# Altium footprint library SignalCommunications.PCBLIB: 466 footprints (part 2 of 30)
Each footprint in its own frame and in the unit in brackets; x right, y up, seen from the top. Pads: shape width x height; smd on the part's side, far side on the other; paste and mask are expansions set on the pad; w line width, h text height; cw(c..) or ccw(c..) is an arc to the next point about the centre after c.
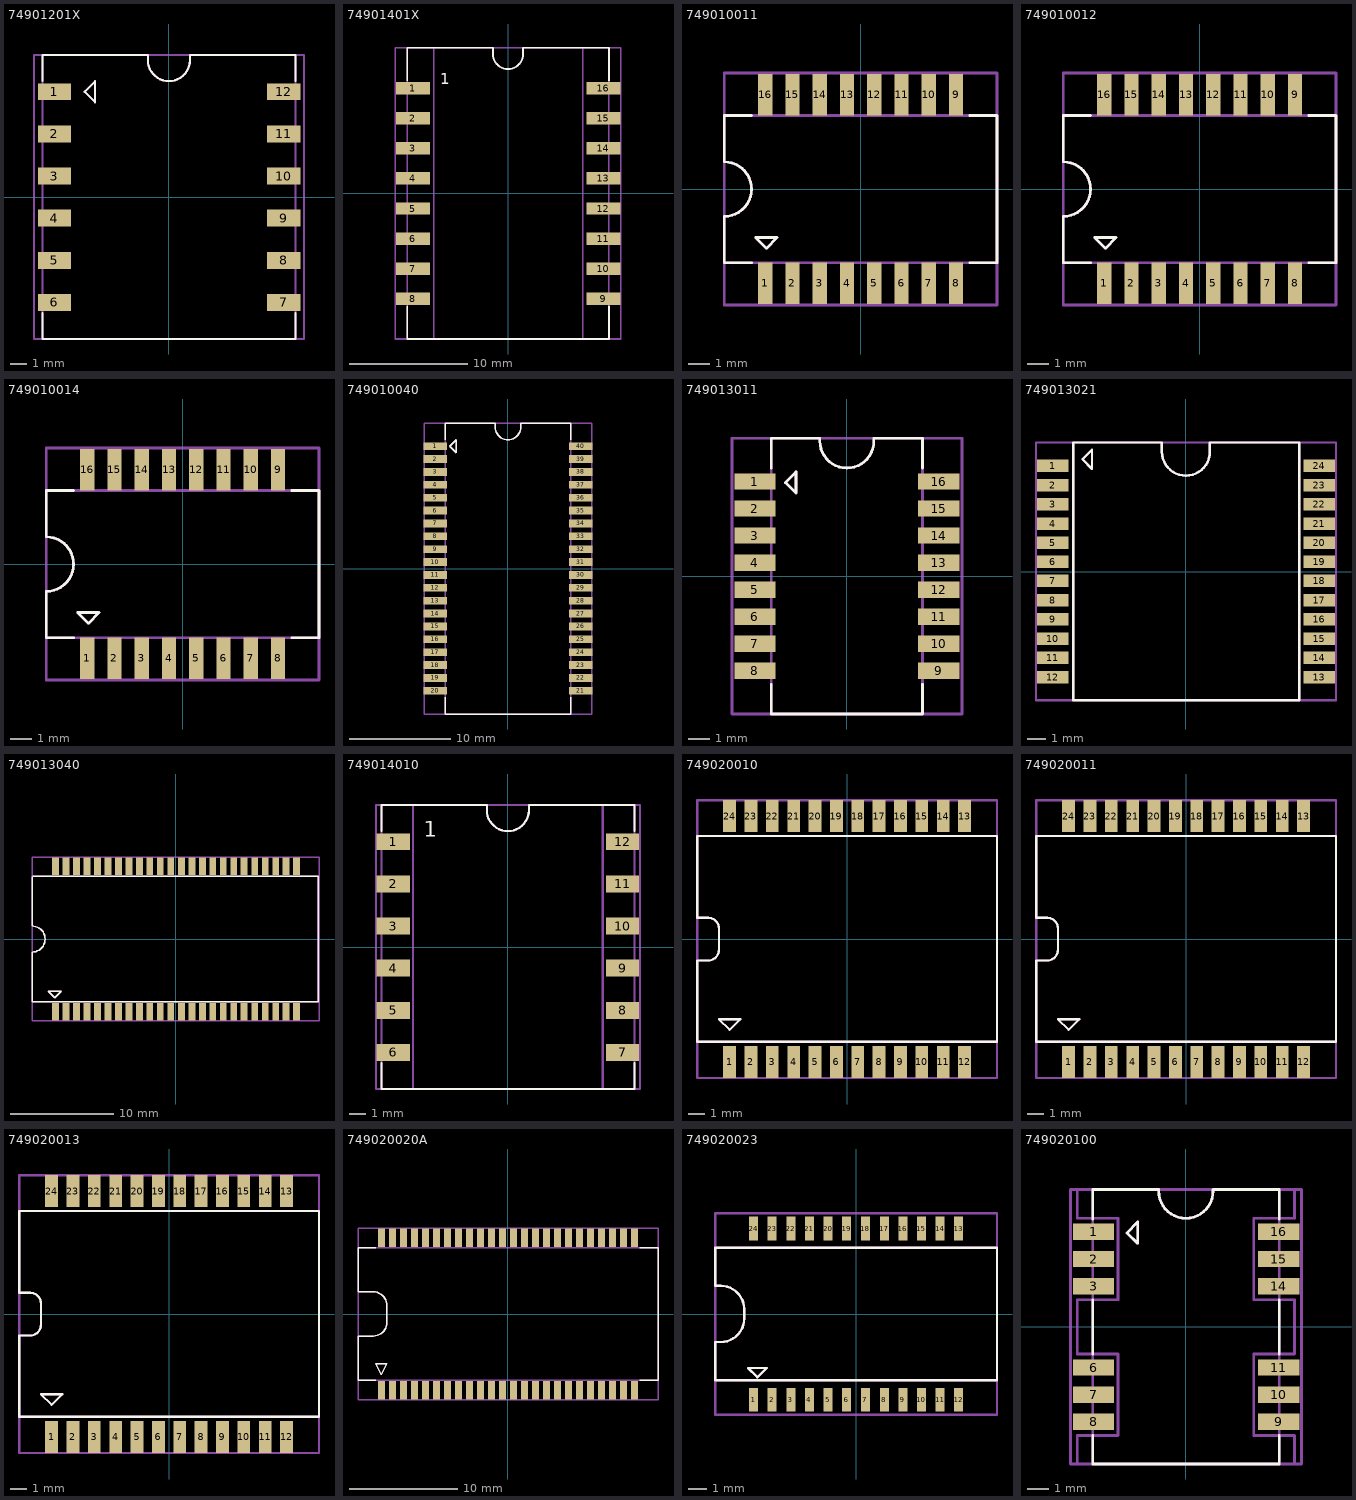
[diagram p1: the footprints below, top view; thin cyan lines are the x and y axes]

## 74901201X [mil]
pads (12):
  rect 79x40 smd: 1(-271.65,250) 2(-271.65,150) 3(-271.65,50) 4(-271.65,-50) 5(-271.65,-150) 6(-271.65,-250) 7(272,-250) 8(272,-150) 9(272,-50) 10(272,50) 11(272,150) 12(272,250)
Top Overlay:
  lines w5: -300,-275 -300,-336.61 300,-336.61 300,-275 ; -300,275 -300,337 -50,337 -50,325 ccw(c0,325) 0,275 ccw(c0,325) 50,325 50,337 300,337 300,275 ; -200,250 -175,275 -175,225 -200,250
Mechanical 10:
  lines w5: -300,-336.61 300,-336.61 300,337 -300,337 -300,-336.61
Mechanical 16:
  lines w5: -300,-336.61 300,-336.61 300,337 50,337 50,325 cw(c0,325) 0,275 cw(c0,325) -50,325 -50,337 -300,337 -300,-336.61 ; -200,250 -175,275 -175,225 -200,250
Mechanical 27:
  lines w5: -319.69,-336.61 -319.69,337 320,337 320,-336.61 -319.69,-336.61

## 74901401X [mil]
pads (16):
  rect 113x41 smd: 1(-316.14,350) 2(-316.14,250) 3(-316.14,150) 4(-316.14,50) 5(-316.14,-50) 6(-316.14,-150) 7(-316.14,-250) 8(-316.14,-350) 9(317,-350) 10(317,-250) 11(317,-150) 12(317,-50) 13(317,50) 14(317,150) 15(317,250) 16(317,350)
Top Overlay:
  lines w6: -334.65,-375 -334.65,-483.27 335,-483.27 335,-375 ; -334.65,375 -334.65,484 -50,484 -50,463 ccw(c0,463) 0,413 ccw(c0,463) 50,463 50,484 335,484 335,375
  text "1" at -225,350 h62
Mechanical 10:
  lines w5: -247.15,-483.27 -247.15,484 248,484 248,-483.27
  lines w6: -247.15,-483.27 248,-483.27
Mechanical 16:
  lines w5: -334.65,-483.27 335,-483.27 335,484 50,484 50,463 cw(c0,463) 0,413 cw(c0,463) -50,463 -50,484 -334.65,484 -334.65,-483.27
  text "1" at -225,350 h62
Mechanical 27:
  lines w5: -375,-483.27 -375,484 375,484 375,-483.27 -375,-483.27

## 749010011 [mil]
pads (16):
  rect 26x76 smd: 1(-175,-172.64) 2(-125,-172.64) 3(-75,-172.64) 4(-25,-172.64) 5(25,-172.64) 6(75,-172.64) 7(125,-172.64) 8(175,-172.64) 9(175,173) 10(125,173) 11(75,173) 12(25,173) 13(-25,173) 14(-75,173) 15(-125,173) 16(-175,173)
Top Overlay:
  lines w5: -200,-134.84 -250,-134.84 -250,-50 ccw(c-250,0) -200,0 ccw(c-250,0) -250,50 -250,135 -200,135 ; 200,-134.84 250,-134.84 250,135 200,135 ; -192.52,-88.78 -172.83,-108.46 -153.15,-88.78 -192.52,-88.78
Mechanical 10:
  lines w5: -250,-134.84 250,-134.84 250,135 -250,135 -250,-134.84
Mechanical 16:
  lines w5: -250,-134.84 -250,-50 ccw(c-250,0) -200,0 ccw(c-250,0) -250,50 -250,135 250,135 250,-134.84 -250,-134.84 ; -192.52,-88.78 -172.83,-108.46 -153.15,-88.78 -192.52,-88.78
Mechanical 27:
  lines w5: -250,-212.5 250,-212.5 250,213 -250,213 -250,-212.5

## 749010012 [mil]
pads (16):
  rect 26x76 smd: 1(-175,-172.64) 2(-125,-172.64) 3(-75,-172.64) 4(-25,-172.64) 5(25,-172.64) 6(75,-172.64) 7(125,-172.64) 8(175,-172.64) 9(175,173) 10(125,173) 11(75,173) 12(25,173) 13(-25,173) 14(-75,173) 15(-125,173) 16(-175,173)
Top Overlay:
  lines w5: -200,-134.84 -250,-134.84 -250,-50 ccw(c-250,0) -200,0 ccw(c-250,0) -250,50 -250,135 -200,135 ; 200,-134.84 250,-134.84 250,135 200,135 ; -192.52,-88.78 -172.83,-108.46 -153.15,-88.78 -192.52,-88.78
Mechanical 10:
  lines w5: -250,-134.84 250,-134.84 250,135 -250,135 -250,-134.84
Mechanical 16:
  lines w5: -250,-134.84 -250,-50 ccw(c-250,0) -200,0 ccw(c-250,0) -250,50 -250,135 250,135 250,-134.84 -250,-134.84 ; -192.52,-88.78 -172.83,-108.46 -153.15,-88.78 -192.52,-88.78
Mechanical 27:
  lines w5: -250,-212.5 250,-212.5 250,213 -250,213 -250,-212.5

## 749010014 [mil]
pads (16):
  rect 26x76 smd: 1(-175,-172.64) 2(-125,-172.64) 3(-75,-172.64) 4(-25,-172.64) 5(25,-172.64) 6(75,-172.64) 7(125,-172.64) 8(175,-172.64) 9(175,173) 10(125,173) 11(75,173) 12(25,173) 13(-25,173) 14(-75,173) 15(-125,173) 16(-175,173)
Top Overlay:
  lines w5: -200,-134.84 -250,-134.84 -250,-50 ccw(c-250,0) -200,0 ccw(c-250,0) -250,50 -250,135 -200,135 ; 200,-134.84 250,-134.84 250,135 200,135 ; -192.52,-88.78 -172.83,-108.46 -153.15,-88.78 -192.52,-88.78
Mechanical 10:
  lines w5: -250,-134.84 250,-134.84 250,135 -250,135 -250,-134.84
Mechanical 16:
  lines w5: -250,-134.84 -250,-50 ccw(c-250,0) -200,0 ccw(c-250,0) -250,50 -250,135 250,135 250,-134.84 -250,-134.84 ; -192.52,-88.78 -172.83,-108.46 -153.15,-88.78 -192.52,-88.78
Mechanical 27:
  lines w5: -250,-212.5 250,-212.5 250,213 -250,213 -250,-212.5

## 749010040 [mil]
pads (40):
  rect 91x30 smd: 1(-281.5,475) 2(-281.5,425) 3(-281.5,375) 4(-281.5,325) 5(-281.5,275) 6(-281.5,225) 7(-281.5,175) 8(-281.5,125) 9(-281.5,75) 10(-281.5,25) 11(-281.5,-25) 12(-281.5,-75) 13(-281.5,-125) 14(-281.5,-175) 15(-281.5,-225) 16(-281.5,-275) 17(-281.5,-325) 18(-281.5,-375) 19(-281.5,-425) 20(-281.5,-475) 21(282,-475) 22(282,-425) 23(282,-375) 24(282,-325) 25(282,-275) 26(282,-225) 27(282,-175) 28(282,-125) 29(282,-75) 30(282,-25) 31(282,25) 32(282,75) 33(282,125) 34(282,175) 35(282,225) 36(282,275) 37(282,325) 38(282,375) 39(282,425) 40(282,475)
Top Overlay:
  lines w5: -242.52,-500 -242.52,-564.96 243,-564.96 243,-500 ; -242.52,500 -242.52,565 -50,565 -50,550 ccw(c0,550) 0,500 ccw(c0,550) 50,550 50,565 243,565 243,500 ; -225,475 -200,500 -200,450 -225,475
Mechanical 10:
  lines w5: -242.52,-564.96 243,-564.96 243,565 -242.52,565 -242.52,-564.96
Mechanical 16:
  lines w5: -242.52,-564.96 -242.52,565 -50,565 -50,550 ccw(c0,550) 0,500 ccw(c0,550) 50,550 50,565 243,565 243,-564.96 -242.52,-564.96 ; -225,475 -200,500 -200,450 -225,475
Mechanical 27:
  lines w5: -325,-564.96 -325,565 325,565 325,-564.96 -325,-564.96

## 749013011 [mil]
pads (16):
  rect 76x30 smd: 1(-169.98,175) 2(-169.98,125) 3(-169.98,75) 4(-169.98,25) 5(-169.98,-25) 6(-169.98,-75) 7(-169.98,-125) 8(-169.98,-175) 9(170,-175) 10(170,-125) 11(170,-75) 12(170,-25) 13(170,25) 14(170,75) 15(170,125) 16(170,175)
Top Overlay:
  lines w5: -139.96,-200 -139.96,-254.92 140,-254.92 140,-200 ; -139.96,200 -139.96,255 -50,255 -50,250 ccw(c0,250) 0,200 ccw(c0,250) 50,250 50,255 140,255 140,200 ; -113.78,173 -94.09,193 -94.09,154 -113.78,173
Mechanical 10:
  lines w5: -139.96,-254.92 140,-254.92 140,255 -139.96,255 -139.96,-254.92
Mechanical 16:
  lines w5: -139.96,-254.92 -139.96,255 -50,255 -50,250 ccw(c0,250) 0,200 ccw(c0,250) 50,250 50,255 140,255 140,-254.92 -139.96,-254.92 ; -113.78,173 -94.09,193 -94.09,154 -113.78,173
Mechanical 27:
  lines w5: -212.5,-254.92 -212.5,255 213,255 213,-254.92 -212.5,-254.92

## 749013021 [mil]
pads (24):
  rect 65x26 smd: 1(-277.56,221) 2(-277.56,180) 3(-277.56,140) 4(-277.56,100) 5(-277.56,60) 6(-277.56,20) 7(-277.56,-19.29) 8(-277.56,-59.45) 9(-277.56,-99.61) 10(-277.56,-139.76) 11(-277.56,-179.92) 12(-277.56,-220.08) 13(278,-220.08) 14(278,-179.92) 15(278,-139.76) 16(278,-99.61) 17(278,-59.45) 18(278,-19.29) 19(278,20) 20(278,60) 21(278,100) 22(278,140) 23(278,180) 24(278,221)
Top Overlay:
  lines w5: -235.04,-268.5 -235.04,269 -50,269 -50,250 ccw(c0,250) 0,200 ccw(c0,250) 50,250 50,269 236,269 236,-268.5 -235.04,-268.5 ; -215.35,234 -195.67,254 -195.67,214 -215.35,234
Mechanical 10:
  lines w5: -235.04,-268.5 236,-268.5 236,269 -235.04,269 -235.04,-268.5
Mechanical 16:
  lines w5: -235.04,-268.5 -235.04,269 -50,269 -50,250 ccw(c0,250) 0,200 ccw(c0,250) 50,250 50,269 236,269 236,-268.5 -235.04,-268.5 ; -215.35,234 -195.67,254 -195.67,214 -215.35,234
Mechanical 27:
  lines w5: -312.5,-268.5 313,-268.5 313,269 -312.5,269 -312.5,-268.5

## 749013040 [mil]
pads (48):
  rect 26x68 smd: 1(-459.84,-278.74) 2(-419.69,-278.74) 3(-379.53,-278.74) 4(-339.37,-278.74) 5(-299.21,-278.74) 6(-259.06,-278.74) 7(-218.9,-278.74) 8(-178.74,-278.74) 9(-138.58,-278.74) 10(-98.43,-278.74) 11(-58.27,-278.74) 12(-18.11,-278.74) 13(23,-278.74) 14(63,-278.74) 15(103,-278.74) 16(143,-278.74) 17(183,-278.74) 18(223,-278.74) 19(263,-278.74) 20(304,-278.74) 21(344,-278.74) 22(384,-278.74) 23(424,-278.74) 24(464,-278.74) 25(464,279) 26(424,279) 27(384,279) 28(344,279) 29(304,279) 30(263,279) 31(223,279) 32(183,279) 33(143,279) 34(103,279) 35(63,279) 36(23,279) 37(-18.11,279) 38(-58.27,279) 39(-98.43,279) 40(-138.58,279) 41(-178.74,279) 42(-218.9,279) 43(-259.06,279) 44(-299.21,279) 45(-339.37,279) 46(-379.53,279) 47(-419.69,279) 48(-459.84,279)
Top Overlay:
  lines w5: -550,238 -550,50 cw(c-550,0) -500,0 cw(c-550,0) -550,-50 -550,-239.96 548,-239.96 548,240 -547.44,240 ; -487.5,-200 -462.5,-225 -437.5,-200 -487.5,-200
Mechanical 10:
  lines w5: -550,-239.96 550,-239.96 550,240 -550,240 -550,-239.96
Mechanical 16:
  lines w5: -550,238 -550,50 cw(c-550,0) -500,0 cw(c-550,0) -550,-50 -550,-239.96 548,-239.96 548,240 -550,240 ; -487.5,-200 -437.5,-200 -462.5,-225 -487.5,-200
Mechanical 27:
  lines w5: -550,-312.5 550,-312.5 550,313 -550,313 -550,-312.5

## 749014010 [mil]
pads (12):
  rect 79x40 smd: 1(-271.65,250) 2(-271.65,150) 3(-271.65,50) 4(-271.65,-50) 5(-271.65,-150) 6(-271.65,-250) 7(272,-250) 8(272,-150) 9(272,-50) 10(272,50) 11(272,150) 12(272,250)
Top Overlay:
  lines w5: -300,-275 -300,-336.61 300,-336.61 300,-275 ; -300,275 -300,337 -50,337 -50,325 ccw(c0,325) 0,275 ccw(c0,325) 50,325 50,337 300,337 300,275
  text "1" at -200,250 h62
Mechanical 10:
  lines w5: -225,-336.61 225,-336.61 225,337 -225,337 -225,-336.61
Mechanical 16:
  lines w5: -300,-336.61 300,-336.61 300,337 50,337 50,325 cw(c0,325) 0,275 cw(c0,325) -50,325 -50,337 -300,337 -300,-336.61
  text "1" at -200,250 h62
Mechanical 27:
  lines w5: -312.5,-336.61 -312.5,337 313,337 313,-336.61 -312.5,-336.61

## 749020010 [mil]
pads (24):
  rrect4% 30x75 smd: 1(-275,-287.5)
  rect 30x75 smd: 2(-225,-287.5) 3(-175,-287.5) 4(-125,-287.5) 5(-75,-287.5) 6(-25,-287.5) 7(25,-287.5) 8(75,-287.5) 9(125,-287.5) 10(175,-287.5) 11(225,-287.5) 12(275,-287.5) 13(275,288) 14(225,288) 15(175,288) 16(125,288) 17(75,288) 18(25,288) 19(-25,288) 20(-75,288) 21(-125,288) 22(-175,288) 23(-225,288) 24(-275,288)
Top Overlay:
  lines w5: -350.59,-240.16 351,-240.16 351,241 -350.59,241 -350.59,50 -325,50 cw(c-325,25) -300,25 -300,-25 cw(c-325,-25) -325,-50 -350.59,-50 -350.59,-239.57 cw(c-350.89,-239.86) -350.59,-240.16 ; -300,-187.5 -275,-212.5 -250,-187.5 -300,-187.5
Mechanical 10:
  lines w5: -350.59,-240.16 351,-240.16 351,241 -350.59,241 -350.59,-240.16
Mechanical 16:
  lines w5: -350.59,-240.16 -350.59,-50 -325,-50 ccw(c-325,-25) -300,-25 -300,25 ccw(c-325,25) -325,50 -350.59,50 -350.59,241 351,241 351,-240.16 -350.59,-240.16 ; -300,-187.5 -250,-187.5 -275,-212.5 -300,-187.5
Mechanical 27:
  lines w5: -350.59,-325 351,-325 351,325 -350.59,325 -350.59,-325

## 749020011 [mil]
pads (24):
  rrect4% 30x75 smd: 1(-275,-287.5)
  rect 30x75 smd: 2(-225,-287.5) 3(-175,-287.5) 4(-125,-287.5) 5(-75,-287.5) 6(-25,-287.5) 7(25,-287.5) 8(75,-287.5) 9(125,-287.5) 10(175,-287.5) 11(225,-287.5) 12(275,-287.5) 13(275,288) 14(225,288) 15(175,288) 16(125,288) 17(75,288) 18(25,288) 19(-25,288) 20(-75,288) 21(-125,288) 22(-175,288) 23(-225,288) 24(-275,288)
Top Overlay:
  lines w5: -350.59,-240.16 351,-240.16 351,241 -350.59,241 -350.59,50 -325,50 cw(c-325,25) -300,25 -300,-25 cw(c-325,-25) -325,-50 -350.59,-50 -350.59,-239.57 cw(c-350.89,-239.86) -350.59,-240.16 ; -300,-187.5 -275,-212.5 -250,-187.5 -300,-187.5
Mechanical 10:
  lines w5: -350.59,-240.16 351,-240.16 351,241 -350.59,241 -350.59,-240.16
Mechanical 16:
  lines w5: -350.59,-240.16 -350.59,-50 -325,-50 ccw(c-325,-25) -300,-25 -300,25 ccw(c-325,25) -325,50 -350.59,50 -350.59,241 351,241 351,-240.16 -350.59,-240.16 ; -300,-187.5 -250,-187.5 -275,-212.5 -300,-187.5
Mechanical 27:
  lines w5: -350.59,-325 -350.59,325 351,325 351,-325 -350.59,-325

## 749020013 [mil]
pads (24):
  rrect4% 30x75 smd: 1(-275,-287.5)
  rect 30x75 smd: 2(-225,-287.5) 3(-175,-287.5) 4(-125,-287.5) 5(-75,-287.5) 6(-25,-287.5) 7(25,-287.5) 8(75,-287.5) 9(125,-287.5) 10(175,-287.5) 11(225,-287.5) 12(275,-287.5) 13(275,288) 14(225,288) 15(175,288) 16(125,288) 17(75,288) 18(25,288) 19(-25,288) 20(-75,288) 21(-125,288) 22(-175,288) 23(-225,288) 24(-275,288)
Top Overlay:
  lines w5: -350.59,-240.16 351,-240.16 351,241 -350.59,241 -350.59,50 -325,50 cw(c-325,25) -300,25 -300,-25 cw(c-325,-25) -325,-50 -350.59,-50 -350.59,-239.57 cw(c-350.89,-239.86) -350.59,-240.16 ; -300,-187.5 -275,-212.5 -250,-187.5 -300,-187.5
Mechanical 10:
  lines w5: -350.59,-240.16 351,-240.16 351,241 -350.59,241 -350.59,-240.16
Mechanical 16:
  lines w5: -350.59,-240.16 -350.59,-50 -325,-50 ccw(c-325,-25) -300,-25 -300,25 ccw(c-325,25) -325,50 -350.59,50 -350.59,241 351,241 351,-240.16 -350.59,-240.16 ; -300,-187.5 -250,-187.5 -275,-212.5 -300,-187.5
Mechanical 27:
  lines w5: -350.59,-325 -350.59,325 351,325 351,-325 -350.59,-325

## 749020020A [mil]
pads (48):
  rect 26x68 smd: 1(-461.81,-278.84) 2(-421.65,-278.84) 3(-381.5,-278.84) 4(-341.34,-278.84) 5(-301.18,-278.84) 6(-261.02,-278.84) 7(-220.87,-278.84) 8(-180.71,-278.84) 9(-140.55,-278.84) 10(-100.39,-278.84) 11(-60.24,-278.84) 12(-20.08,-278.84) 13(21,-278.84) 14(61,-278.84) 15(101,-278.84) 16(141,-278.84) 17(181,-278.84) 18(221,-278.84) 19(262,-278.84) 20(302,-278.84) 21(342,-278.84) 22(382,-278.84) 23(422,-278.84) 24(462,-278.84) 25(462,279) 26(422,279) 27(382,279) 28(342,279) 29(302,279) 30(262,279) 31(221,279) 32(181,279) 33(141,279) 34(101,279) 35(61,279) 36(21,279) 37(-20.08,279) 38(-60.24,279) 39(-100.39,279) 40(-140.55,279) 41(-180.71,279) 42(-220.87,279) 43(-261.02,279) 44(-301.18,279) 45(-341.34,279) 46(-381.5,279) 47(-421.65,279) 48(-461.81,279)
Top Overlay:
  lines w5: -481.89,-241.14 -547.44,-241.14 -547.44,-80.31 -491.73,-80.31 ccw(c-491.73,-30.32) -441.73,-30.32 ; -481.89,242 -547.44,242 -547.44,81 -491.73,81 cw(c-491.73,31) -441.73,31 ; -441.73,-40.16 -441.73,41 ; 482,-241.14 548,-241.14 548,242 482,242 ; -483.27,-181 -443.11,-181 -463.19,-221.16 -483.27,-181
Mechanical 10:
  lines w5: -547.44,-241.14 548,-241.14 548,242 -547.44,242 -547.44,-241.14
Mechanical 16:
  lines w5: 481,-241.14 -547.44,-241.14 -547.44,-80.31 -491.73,-80.31 ccw(c-491.73,-30.32) -441.73,-30.32 -441.73,31 ccw(c-491.73,31) -491.73,81 -547.44,81 -547.44,242 548,242 548,-241.14 482,-241.14 ; -483.27,-181 -443.11,-181 -463.19,-221.16 -483.27,-181
Mechanical 27:
  lines w5: -547.44,-312.5 548,-312.5 548,313 -547.44,313 -547.44,-312.5

## 749020023 [mil]
pads (24):
  rrect4% 19x50 smd: 1(-216.54,-180.91)
  rect 19x50 smd: 2(-177.17,-180.91) 3(-137.8,-180.91) 4(-98.43,-180.91) 5(-59.06,-180.91) 6(-19.68,-180.91) 7(20,-180.91) 8(60,-180.91) 9(99,-180.91) 10(138,-180.91) 11(178,-180.91) 12(217,-180.91) 13(217,181) 14(178,181) 15(138,181) 16(99,181) 17(60,181) 18(20,181) 19(-19.68,181) 20(-59.06,181) 21(-98.43,181) 22(-137.8,181) 23(-177.17,181) 24(-216.54,181)
Top Overlay:
  lines w5: -297.44,-139.76 298,-139.76 298,140 -297.44,140 -297.44,60 -286.22,60 cw(c-286.22,10) -236.22,10 -236.22,-9.06 cw(c-286.22,-9.06) -286.22,-59.06 -297.44,-59.06 -297.44,-139.76 ; -228.15,-113.78 -188.78,-113.78 -208.46,-133.46 -228.15,-113.78
Mechanical 10:
  lines w5: -297.44,-139.76 298,-139.76 298,140 -297.44,140 -297.44,-139.76
Mechanical 16:
  lines w5: -297.44,-139.76 298,-139.76 298,140 -297.44,140 -297.44,60 -286.22,60 cw(c-286.22,10) -236.22,10 -236.22,-9.06 cw(c-286.22,-9.06) -286.22,-59.06 -297.44,-59.06 -297.44,-139.76 ; -228.15,-113.78 -208.46,-133.46 -188.78,-113.78 -228.15,-113.78
Mechanical 27:
  lines w5: -297.44,-212.5 298,-212.5 298,213 -297.44,213 -297.44,-212.5

## 749020100 [mil]
pads (12):
  rect 76x30 smd: 1(-170.08,175) 2(-170.08,125) 3(-170.08,75) 6(-170.08,-75) 7(-170.08,-125) 8(-170.08,-175) 9(171,-175) 10(171,-125) 11(171,-75) 14(171,75) 15(171,125) 16(171,175)
Top Overlay:
  lines w5: -171.26,-200 -171.26,-252.56 172,-252.56 172,-200 ; -171.26,-50 -171.26,50 ; -171.26,198 -171.26,253 -50,253 -50,250 ccw(c0,250) 0,200 ccw(c0,250) 50,250 50,253 172,253 172,198 ; 172,-50 172,50 ; -108.46,173 -88.78,154 -88.78,193 -108.46,173
Mechanical 10:
  lines w5: -200,-252.56 200,-252.56 200,-200 125,-200 125,-50 200,-50 200,50 125,50 125,200 200,200 200,253 -200,253 -200,200 -125,200 -125,50 -200,50 -200,-50 -125,-50 -125,-200 -200,-200 -200,-252.56
Mechanical 16:
  lines w5: -171.26,-252.56 172,-252.56 172,253 50,253 50,250 cw(c0,250) 0,200 cw(c0,250) -50,250 -50,253 -171.26,253 -171.26,-252.56 ; -108.46,173 -88.78,193 -88.78,154 -108.46,173
Mechanical 27:
  lines w5: -212.5,-252.56 213,-252.56 213,253 -212.5,253 -212.5,-252.56